# Altium footprint library LW4.PcbLib: 40 footprints (part 1 of 3)
Each footprint in its own frame and in the unit in brackets; x right, y up, seen from the top. Pads: shape width x height; smd on the part's side, far side on the other; paste and mask are expansions set on the pad; w line width, h text height; cw(c..) or ccw(c..) is an arc to the next point about the centre after c.
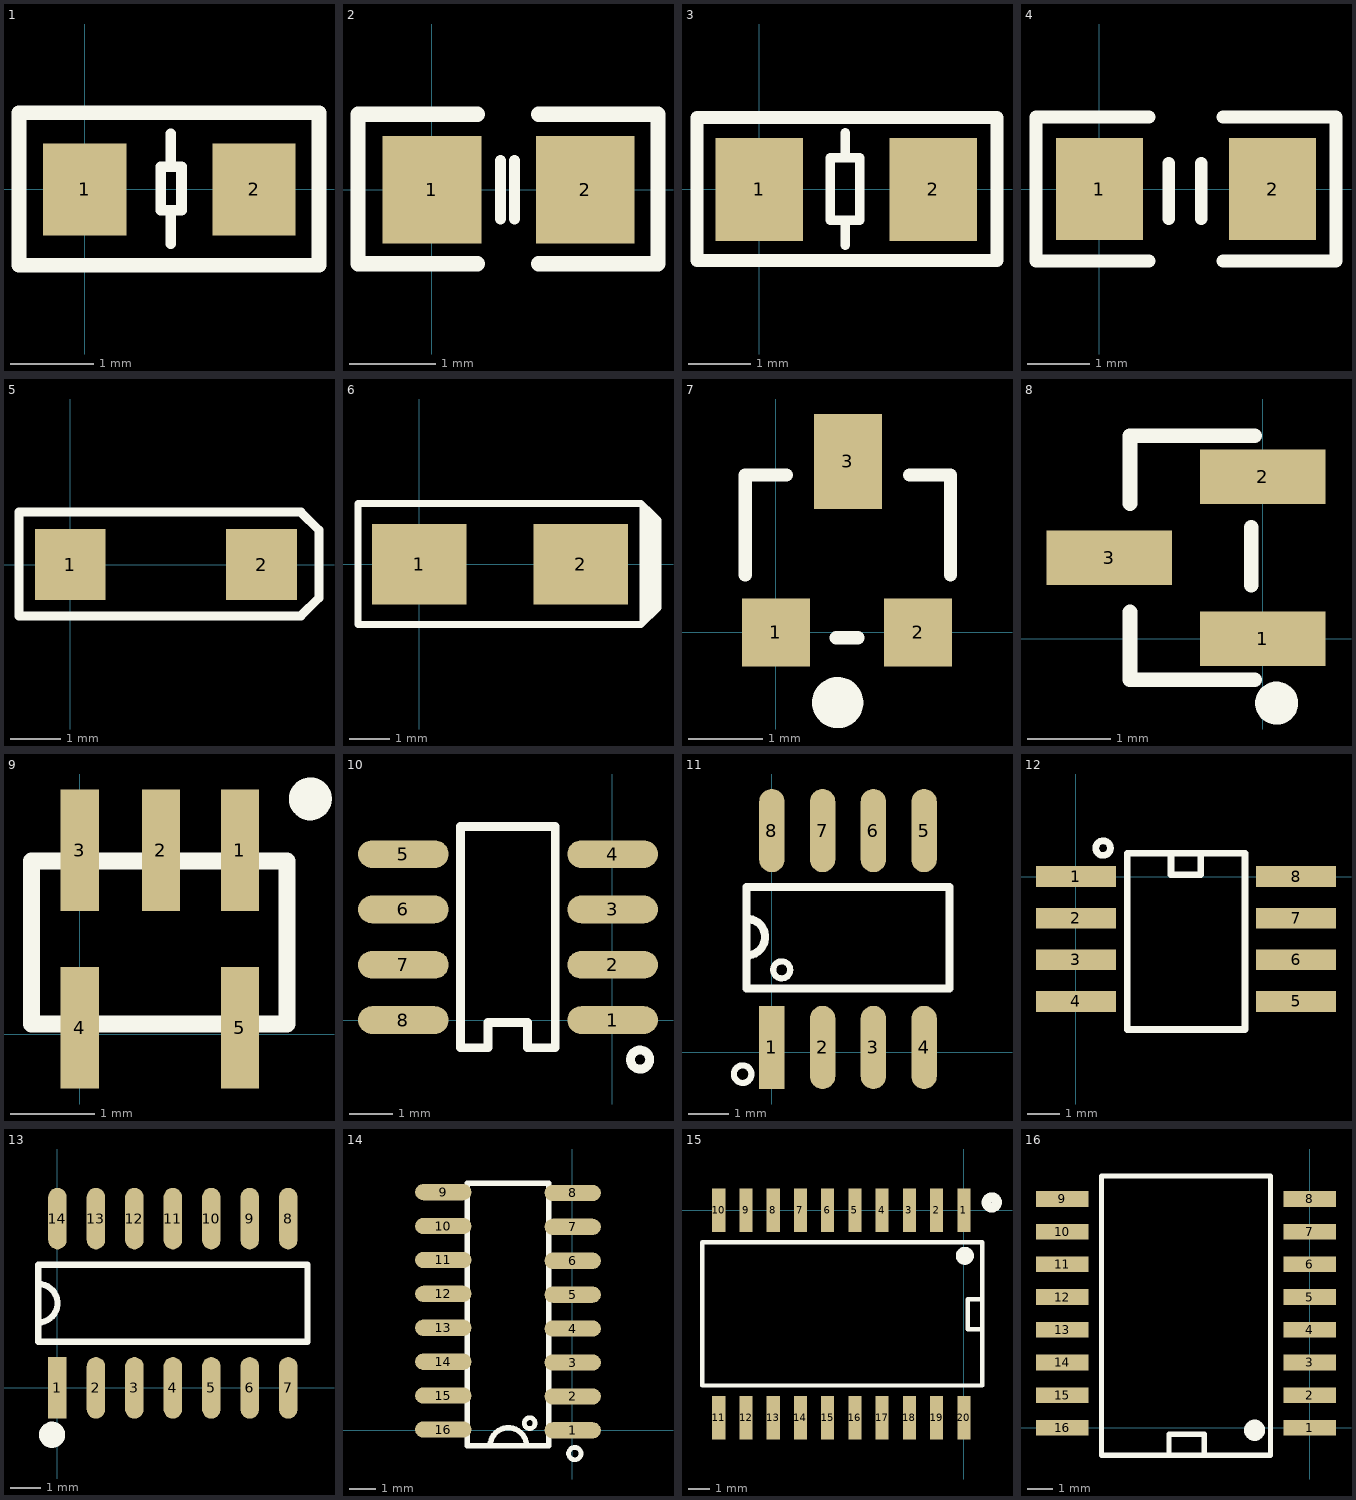
[diagram p0: the footprints below, top view; thin cyan lines are the x and y axes]

## 1 [mm]
pads (2):
  rect 1x1.1 smd: 1(0,0) 2(2.03,0)
Top Overlay:
  lines w0.127: 1.03,-0.65 1.03,-0.25 ; 1.03,0.27 1.03,0.67 ; 0.91,-0.25 1.16,-0.25 1.16,0.27 0.91,0.27 0.91,-0.25
  lines w0.178: -0.79,-0.91 2.81,-0.91 2.81,0.92 -0.79,0.92 -0.79,-0.91

## 2 [mm]
pads (2):
  rect 1.15x1.25 smd: 1(0,0) 2(1.784,0)
Top Overlay:
  lines w0.127: 0.8,-0.34 0.8,0.34 ; 0.96,-0.34 0.96,0.34
  lines w0.178: 0.53,-0.86 -0.86,-0.86 -0.86,0.88 0.53,0.88 ; 1.24,-0.86 2.63,-0.86 2.63,0.88 1.24,0.88

## 3 [mm]
pads (2):
  rect 1.4x1.65 smd: 1(0,0) 2(2.79,0)
Top Overlay:
  lines w0.152: 1.38,-0.9 1.38,-0.5 ; 1.38,0.51 1.38,0.91 ; 1.14,-0.5 1.61,-0.5 1.61,0.51 1.14,0.51 1.14,-0.5
  lines w0.203: -1,-1.14 3.81,-1.14 3.81,1.15 -1,1.15 -1,-1.14

## 4 [mm]
pads (2):
  rect 1.4x1.65 smd: 1(0,0) 2(2.79,0)
Top Overlay:
  lines w0.203: 0.8,-1.16 -1.02,-1.16 -1.02,1.16 0.8,1.16 ; 1.12,-0.48 1.12,0.41 ; 1.64,-0.48 1.64,0.41 ; 1.99,-1.16 3.81,-1.16 3.81,1.16 1.99,1.16

## 5 [mm]
pads (2):
  rect 1.4x1.4 smd: 1(0,0) 2(3.79,0)
Top Overlay:
  lines w0.178: -1.02,-1.02 4.57,-1.02 4.93,-0.66 4.93,0.68 4.57,1.04 -1.02,1.04 -1.02,-1.02

## 6 [mm]
pads (2):
  rect 2.35x2 smd: 1(0,0) 2(4.01,0)
Top Overlay:
  lines w0.178: 5.72,-1.29 5.72,1.3 5.56,1.46 5.56,-1.45 5.51,-1.5 ; 5.762,-1.248 5.83,-1.18 5.83,1.19 ; 5.51,-1.5 -1.52,-1.5 -1.52,1.51 5.51,1.51 5.93,1.09 5.93,-1.08 5.51,-1.5

## 7 [mil]
pads (3):
  rect 36x36 smd: 1(0,0) 2(75,0)
  rect 36x50 smd: 3(38,90.24)
Top Overlay:
  circle w15: c32.59,-37.01 r6
  lines w7: -16.14,30.32 -16.14,83.07 5.51,83.07 ; 31.89,-2.76 43.31,-2.76 ; 70.49,83.07 92.14,83.07 92.14,30.32

## 8 [mm]
pads (3):
  rect 1.5x0.65 smd: 1(0,0) 2(0,1.94) 3(-1.84,0.97)
Top Overlay:
  circle w0.254: c0.165,-0.77 r0.13
  lines w0.178: -1.59,0.32 -1.59,-0.49 -0.1,-0.49 ; -1.59,1.62 -1.59,2.43 -0.1,2.43 ; -0.14,0.64 -0.14,1.33

## 9 [mil]
pads (5):
  rect 18x57 smd: 1(75,86.22) 2(38,86.22) 3(0,86.22) 4(0,3) 5(75,3)
Top Overlay:
  circle w12: c107.95,110.24 r4.05
  lines w8: -22.64,4.72 -22.64,81.1 97.05,81.1 97.05,4.72 -22.64,4.72

## 10 [mil]
pads (8):
  oval 82x25 smd: 1(0.5,0) 2(0.5,50) 3(0.5,100) 4(0.5,150) 5(-188.72,150) 6(-188.72,100) 7(-188.72,50) 8(-188.72,0)
Top Overlay:
  circle w8: c25.31,-35.75 r8.67
  lines w8: -137.19,-25 -112.19,-25 -112.19,-2.33 -76.34,-2.33 -76.34,-25 -51.34,-25 -51.34,175 -137.19,175 -137.19,-25

## 11 [mil]
pads (8):
  rect 25x82 smd: 1(0,5)
  oval 25x82 smd: 2(50,5) 3(100,5) 4(150,5) 5(150,218.54) 6(100,218.54) 7(50,218.54) 8(0,218.54)
Top Overlay:
  circle w6: c9.71,81.37 r8.37
  circle w6: c-28.77,-21.36 r8.63
  lines w8: -24.83,95.54 ccw(c-24.83,113.65) -24.83,131.76 ; -24.83,62.86 175.17,62.86 175.17,162.86 -24.83,162.86 -24.83,62.86

## 12 [mil]
pads (8):
  rect 96x25 smd: 1(0,0) 2(0,-50) 3(0,-100) 4(0,-150) 5(264.57,-150) 6(264.57,-100) 7(264.57,-50) 8(264.57,0)
Top Overlay:
  circle w8: c32.68,34.25 r8.8
  lines w8: 114.17,27.95 114.17,2.36 150,2.36 150,27.95 ; 61.81,-183.86 61.81,27.95 203.15,27.95 203.15,-183.86 61.81,-183.86

## 13 [mil]
pads (14):
  rect 24x80 smd: 1(0,0)
  oval 24x80 smd: 2(50,0) 3(100,0) 4(150,0) 5(200,0) 6(250,0) 7(300,0) 8(300,220) 9(250,220) 10(200,220) 11(150,220) 12(100,220) 13(50,220) 14(0,220)
Top Overlay:
  circle w20: c-7,-61.02 r7
  lines w8: -25,85 ccw(c-25,110) -25,135 ; -25,60 325,60 325,160 -25,160 -25,60

## 14 [mil]
pads (16):
  oval 83x24 smd: 1(1,0) 2(1,50) 3(1,100) 4(1,150) 5(1,200) 6(1,250) 7(1,300) 8(1,350) 9(-189.89,351.18) 10(-189.89,301.18) 11(-189.89,251.18) 12(-189.89,201.18) 13(-189.89,151.18) 14(-189.89,101.18) 15(-189.89,51.18) 16(-189.89,1.18)
Top Overlay:
  circle w7: c-62.5,10.58 r8.03
  circle w7: c4.03,-34.3 r9.13
  lines w8: -120.77,-22.89 cw(c-94,-22.89) -67.23,-22.89 ; -154.63,-22.89 -34.55,-22.89 -34.55,364.52 -154.63,364.52 -154.63,-22.89

## 15 [mil]
pads (20):
  rect 24x80 smd: 1(0,0) 2(-50,0) 3(-100,0) 4(-150,0) 5(-200,0) 6(-250,0) 7(-300,0) 8(-350,0) 9(-400,0) 10(-450,0) 11(-450,-380.73) 12(-400,-380.73) 13(-350,-380.73) 14(-300,-380.73) 15(-250,-380.73) 16(-200,-380.73) 17(-150,-380.73) 18(-100,-380.73) 19(-50,-380.73) 20(0,-380.73)
Top Overlay:
  circle w18: c1.87,-83.48 r7.5
  circle w18: c51.4,14.56 r9.52
  lines w8: 33.76,-218.52 6.99,-218.52 6.99,-163.4 33.76,-163.4 ; -480.41,-321.67 33.76,-321.67 33.76,-58.67 -480.41,-58.67 -480.41,-321.67

## 16 [mil]
pads (16):
  rect 80x24 smd: 1(0,0) 2(0,50) 3(0,100) 4(0,150) 5(0,200) 6(0,250) 7(0,300) 8(0,350) 9(-378.8,350) 10(-378.8,300) 11(-378.8,250) 12(-378.8,200) 13(-378.79,150) 14(-378.8,100) 15(-378.79,50) 16(-378.8,0)
Top Overlay:
  circle w18: c-84.48,-3.74 r7.26
  lines w8: -215.58,-41.93 -215.58,-10.04 -161.64,-10.04 -161.64,-41.93 ; -318.73,-41.93 -318.73,385.24 -60.07,385.24 -60.07,-41.93 -318.73,-41.93